# Altium footprint library Telit.PcbLib: 9 footprints
Each footprint in its own frame and in the unit in brackets; x right, y up, seen from the top. Pads: shape width x height; smd on the part's side, far side on the other; paste and mask are expansions set on the pad; w line width, h text height; cw(c..) or ccw(c..) is an arc to the next point about the centre after c.
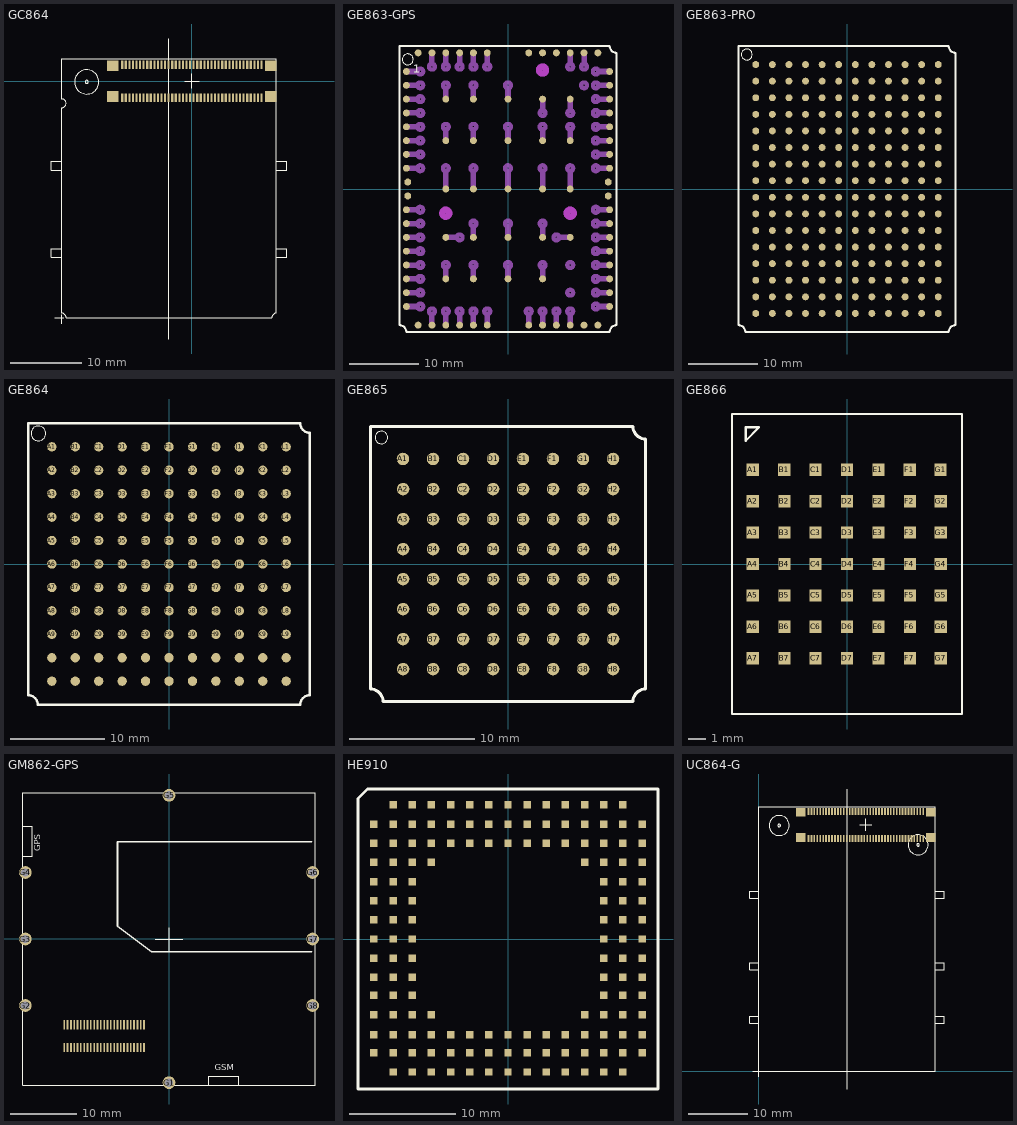
[diagram p0: the footprints below, top view; thin cyan lines are the x and y axes]

## GC864 [mm]
pads (84):
  rect 0.3x1.2 smd: 1(-9.75,2.3) 2(-9.75,-2.3) 3(-9.25,2.3) 4(-9.25,-2.3) 5(-8.75,2.3) 6(-8.75,-2.3) 7(-8.25,2.3) 8(-8.25,-2.3) 9(-7.75,2.3) 10(-7.75,-2.3) 11(-7.25,2.3) 12(-7.25,-2.3) 13(-6.75,2.3) 14(-6.75,-2.3) 15(-6.25,2.3) 16(-6.25,-2.3) 17(-5.75,2.3) 18(-5.75,-2.3) 19(-5.25,2.3) 20(-5.25,-2.3) 21(-4.75,2.3) 22(-4.75,-2.3) 23(-4.25,2.3) 24(-4.25,-2.3) 25(-3.75,2.3) 26(-3.75,-2.3) 27(-3.25,2.3) 28(-3.25,-2.3) 29(-2.75,2.3) 30(-2.75,-2.3) 31(-2.25,2.3) 32(-2.25,-2.3) 33(-1.75,2.3) 34(-1.75,-2.3) 35(-1.25,2.3) 36(-1.25,-2.3) 37(-0.75,2.3) 38(-0.75,-2.3) 39(-0.25,2.3) 40(-0.25,-2.3) 41(0.25,2.3) 42(0.25,-2.3) 43(0.75,2.3) 44(0.75,-2.3) 45(1.25,2.3) 46(1.25,-2.3) 47(1.75,2.3) 48(1.75,-2.3) 49(2.25,2.3) 50(2.25,-2.3) 51(2.75,2.3) 52(2.75,-2.3) 53(3.25,2.3) 54(3.25,-2.3) 55(3.75,2.3) 56(3.75,-2.3) 57(4.25,2.3) 58(4.25,-2.3) 59(4.75,2.3) 60(4.75,-2.3) 61(5.25,2.3) 62(5.25,-2.3) 63(5.75,2.3) 64(5.75,-2.3) 65(6.25,2.3) 66(6.25,-2.3) 67(6.75,2.3) 68(6.75,-2.3) 69(7.25,2.3) 70(7.25,-2.3) 71(7.75,2.3) 72(7.75,-2.3) 73(8.25,2.3) 74(8.25,-2.3) 75(8.75,2.3) 76(8.75,-2.3) 77(9.25,2.3) 78(9.25,-2.3) 79(9.75,2.3) 80(9.75,-2.3)
  rect 1.6x1.5 smd: P$81(-11.05,2.15) P$82(-11.05,-2.15) P$83(11.05,2.15) P$84(11.05,-2.15)
Top Overlay:
  circle w0.127: c-14.716,-0.105 r1.7
  circle w0.127: c-14.716,-0.105 r0.224
  lines w0: -19.2,-33.1 -17.9,-33.1 ; -18.2,-34 -18.2,-32.7 ; -3.2,-36.1 -3.2,5.9 ; -1,0 1,0 ; 0,-1 0,1
  lines w0.127: -18.2,-23.45 -18.2,-24.65 -19.7,-24.65 -19.7,-23.45 -18.2,-23.45 ; -18.2,-23.45 -18.2,-12.45 ; -18.2,-12.45 -19.7,-12.45 -19.7,-11.25 -18.2,-11.25 -18.2,-12.45 ; 11.8,-23.45 11.8,-12.45 ; 11.8,-23.45 11.8,-24.65 13.3,-24.65 13.3,-23.45 11.8,-23.45 ; 11.8,-12.45 13.3,-12.45 13.3,-11.25 11.8,-11.25 11.8,-12.45 ; -18.2,-32.5 cw(c-18.2,-33.1) -17.6,-33.1 11.2,-33.1 cw(c11.8,-33.1) 11.8,-32.5 11.8,3.1 -18.2,3.1 -18.2,-2.5 cw(c-18.2,-3.1) -17.6,-3.1 cw(c-18.2,-3.1) -18.2,-3.7 -18.2,-32.5
Mechanical 13:
  text "www.antrax.de" at -16.51,-31.75 h0.94
Mechanical 16:
  text "GSM" at -15.901,-3.013 h1.26
  text "(Bot)" at -15.52,-3.875 h0.94

## GE863-GPS [mm]
pads (84):
  rrect100% 1x1 smd: 1(-14.7,17) 2(-14.7,15) 3(-14.7,13) 4(-14.7,11) 5(-14.7,9) 6(-14.7,7) 7(-14.7,5) 8(-14.7,3) 9(-14.7,-3) 10(-14.7,-5) 11(-14.7,-7) 12(-14.7,-9) 13(-14.7,-11) 14(-14.7,-13) 15(-14.7,-15) 16(-14.7,-17) 17(-13,-19.7) 18(-11,-19.7) 19(-9,-19.7) 20(-7,-19.7) 21(-5,-19.7) 22(-3,-19.7) 23(3,-19.7) 24(5,-19.7) 25(7,-19.7) 26(9,-19.7) 27(11,-19.7) 28(13,-19.7) 29(14.7,-17) 30(14.7,-15) 31(14.7,-13) 32(14.7,-11) 33(14.7,-9) 34(14.7,-7) 35(14.7,-5) 36(14.7,-3) 37(14.7,3) 38(14.7,5) 39(14.7,7) 40(14.7,9) 41(14.7,11) 42(14.7,13) 43(14.7,15) 44(14.7,17) 45(13,19.7) 46(11,19.7) 47(9,19.7) 48(7,19.7) 49(5,19.7) 50(3,19.7) 51(-3,19.7) 52(-5,19.7) 53(-7,19.7) 54(-9,19.7) 55(-11,19.7) 56(-13,19.7) 57(-9,13) 58(-9,7) 59(-9,0) 60(-9,-7) 61(-9,-13) 62(-5,13) 63(-5,7) 64(-5,0) 65(-5,-7) 66(-5,-13) 67(0,13) 68(0,7) 69(0,0) 70(0,-7) 71(0,-13) 72(5,13) 73(5,7) 74(5,0) 75(5,-7) 76(5,-13) 77(9,13) 78(9,7) 79(9,0) 80(9,-7) 81(-14.5,1) 82(-14.5,-1) 83(14.5,-1) 84(14.5,1)
Top Overlay:
  circle w0: c-14.5,18.75 r0.79
  lines w0.305: -15.7,-19.7 cw(c-15.7,-20.7) -14.7,-20.7 14.7,-20.7 cw(c15.7,-20.7) 15.7,-19.7 15.7,19.7 cw(c15.7,20.7) 14.7,20.7 -15.7,20.7 -15.7,-19.7
  text "1" at -13.743,16.383 h1.97
Top Solder:
  circle w0: c-9,13 r0.671
  circle w0: c-5,13 r0.671
  circle w0: c0,13 r0.671
  circle w0: c5,13 r0.671
  circle w0: c9,13 r0.671
  circle w0: c9,7 r0.671
  circle w0: c5,7 r0.671
  circle w0: c0,7 r0.671
  circle w0: c-5,7 r0.671
  circle w0: c-9,7 r0.671
  circle w0: c-9,0 r0.671
  circle w0: c-5,0 r0.671
  circle w0: c0,0 r0.671
  circle w0: c5,0 r0.671
  circle w0: c9,0 r0.671
  circle w0: c9,-7 r0.671
  circle w0: c5,-7 r0.671
  circle w0: c0,-7 r0.671
  circle w0: c-5,-7 r0.671
  circle w0: c-9,-7 r0.671
  circle w0: c-9,-13 r0.671
  circle w0: c-5,-13 r0.671
  circle w0: c0,-13 r0.671
  circle w0: c5,-13 r0.671
  circle w0: c-14.7,17 r0.671
  circle w0: c-14.7,15 r0.671
  circle w0: c-14.7,13 r0.671
  circle w0: c-14.7,11 r0.671
  circle w0: c-14.7,9 r0.671
  circle w0: c-14.7,7 r0.671
  circle w0: c-14.7,5 r0.671
  circle w0: c-14.7,3 r0.671
  circle w0: c-14.7,-3 r0.671
  circle w0: c-14.7,-5 r0.671
  circle w0: c-14.7,-7 r0.671
  circle w0: c-14.7,-9 r0.671
  circle w0: c-14.7,-11 r0.671
  circle w0: c-14.7,-13 r0.671
  circle w0: c-14.7,-15 r0.671
  circle w0: c-14.7,-17 r0.671
  circle w0: c-13,-19.7 r0.671
  circle w0: c-11,-19.7 r0.671
  circle w0: c-9,-19.7 r0.671
  circle w0: c-7,-19.7 r0.671
  circle w0: c-5,-19.7 r0.671
  circle w0: c-3,-19.7 r0.671
  circle w0: c3,-19.7 r0.671
  circle w0: c5,-19.7 r0.671
  circle w0: c7,-19.7 r0.671
  circle w0: c9,-19.7 r0.671
  circle w0: c11,-19.7 r0.671
  circle w0: c13,-19.7 r0.671
  circle w0: c14.7,-17 r0.671
  circle w0: c14.7,-15 r0.671
  circle w0: c14.7,-13 r0.671
  circle w0: c14.7,-11 r0.671
  circle w0: c14.7,-9 r0.671
  circle w0: c14.7,-7 r0.671
  circle w0: c14.7,-5 r0.671
  circle w0: c14.7,-3 r0.671
  circle w0: c14.7,3 r0.671
  circle w0: c14.7,5 r0.671
  circle w0: c14.7,7 r0.671
  circle w0: c14.7,9 r0.671
  circle w0: c14.7,11 r0.671
  circle w0: c14.7,13 r0.671
  circle w0: c14.7,15 r0.671
  circle w0: c14.7,17 r0.671
  circle w0: c13,19.7 r0.671
  circle w0: c11,19.7 r0.671
  circle w0: c9,19.7 r0.671
  circle w0: c7,19.7 r0.671
  circle w0: c5,19.7 r0.671
  circle w0: c3,19.7 r0.671
  circle w0: c-3,19.7 r0.671
  circle w0: c-5,19.7 r0.671
  circle w0: c-7,19.7 r0.671
  circle w0: c-9,19.7 r0.671
  circle w0: c-11,19.7 r0.671
  circle w0: c-13,19.7 r0.671
Mechanical 8 keep-out:
  circle w0.9: c-9,-3.5 r0.51
  circle w0.9: c9,-3.5 r0.51
  circle w0.9: c5,17.2 r0.51
Mechanical 12:
  circle w0.61: c-9,15 r0.424
  circle w0.61: c-5,15 r0.424
  circle w0.61: c0,15 r0.424
  circle w0.61: c5,11 r0.424
  circle w0.61: c9,11 r0.424
  circle w0.61: c9,9 r0.424
  circle w0.61: c5,9 r0.424
  circle w0.61: c0,9 r0.424
  circle w0.61: c-5,9 r0.424
  circle w0.61: c-9,9 r0.424
  circle w0.61: c9,3 r0.424
  circle w0.61: c5,3 r0.424
  circle w0.61: c0,3 r0.424
  circle w0.61: c-5,3 r0.424
  circle w0.61: c-9,3 r0.424
  circle w0.61: c-5,-5 r0.424
  circle w0.61: c0,-5 r0.424
  circle w0.61: c5,-5 r0.424
  circle w0.61: c7,-7 r0.424
  circle w0.61: c-7,-7 r0.424
  circle w0.61: c-9,-11 r0.424
  circle w0.61: c-5,-11 r0.424
  circle w0.61: c0,-11 r0.424
  circle w0.61: c5,-11 r0.424
  circle w0.61: c11,15 r0.424
  circle w0.61: c9,-15 r0.424
  circle w0.61: c9,-11 r0.424
  circle w0.61: c-9,17.7 r0.424
  circle w0.61: c-11,17.7 r0.424
  circle w0.61: c-7,17.7 r0.424
  circle w0.61: c-5,17.7 r0.424
  circle w0.61: c-3,17.7 r0.424
  circle w0.61: c11,17.7 r0.424
  circle w0.61: c9,17.7 r0.424
  circle w0.61: c-11,-17.7 r0.424
  circle w0.61: c-9,-17.7 r0.424
  circle w0.61: c-7,-17.7 r0.424
  circle w0.61: c-5,-17.7 r0.424
  circle w0.61: c-3,-17.7 r0.424
  circle w0.61: c3,-17.7 r0.424
  circle w0.61: c5,-17.7 r0.424
  circle w0.61: c7,-17.7 r0.424
  circle w0.61: c9,-17.7 r0.424
  circle w0.61: c-12.7,-17 r0.424
  circle w0.61: c-12.7,-15 r0.424
  circle w0.61: c-12.7,-13 r0.424
  circle w0.61: c-12.7,-11 r0.424
  circle w0.61: c-12.7,-9 r0.424
  circle w0.61: c-12.7,-7 r0.424
  circle w0.61: c-12.7,-5 r0.424
  circle w0.61: c-12.7,-3 r0.424
  circle w0.61: c-12.7,17 r0.424
  circle w0.61: c-12.7,15 r0.424
  circle w0.61: c-12.7,13 r0.424
  circle w0.61: c-12.7,11 r0.424
  circle w0.61: c-12.7,9 r0.424
  circle w0.61: c-12.7,7 r0.424
  circle w0.61: c-12.7,5 r0.424
  circle w0.61: c-12.7,3 r0.424
  circle w0.61: c12.7,17 r0.424
  circle w0.61: c12.7,15 r0.424
  circle w0.61: c12.7,13 r0.424
  circle w0.61: c12.7,11 r0.424
  circle w0.61: c12.7,9 r0.424
  circle w0.61: c12.7,7 r0.424
  circle w0.61: c12.7,5 r0.424
  circle w0.61: c12.7,3 r0.424
  circle w0.61: c12.7,-3 r0.424
  circle w0.61: c12.7,-5 r0.424
  circle w0.61: c12.7,-7 r0.424
  circle w0.61: c12.7,-9 r0.424
  circle w0.61: c12.7,-11 r0.424
  circle w0.61: c12.7,-13 r0.424
  circle w0.61: c12.7,-15 r0.424
  circle w0.61: c12.7,-17 r0.424
  rectangle: -9.4,-13 -8.6,-11
  rectangle: -5.4,-13 -4.6,-11
  rectangle: -0.4,-13 0.4,-11
  rectangle: 4.6,-13 5.4,-11
  rectangle: 4.6,-7 5.4,-5
  rectangle: -0.4,-7 0.4,-5
  rectangle: -5.4,-7 -4.6,-5
  region: 9,-7.4 9,-6.6 7,-6.6 7,-7.4
  region: -7,-7.4 -7,-6.6 -9,-6.6 -9,-7.4
  rectangle: 8.6,7 9.4,9
  rectangle: 4.6,7 5.4,9
  rectangle: -0.4,7 0.4,9
  rectangle: -5.4,7 -4.6,9
  rectangle: -9.4,7 -8.6,9
  rectangle: -9.4,13 -8.6,15
  rectangle: -5.4,13 -4.6,15
  rectangle: -0.4,13 0.4,15
  rectangle: 4.6,11 5.4,13
  rectangle: 8.6,11 9.4,13
  rectangle: -9.4,0 -8.6,3
  rectangle: -5.4,0 -4.6,3
  rectangle: -0.4,0 0.4,3
  rectangle: 4.6,0 5.4,3
  rectangle: 8.6,0 9.4,3
  rectangle: -9.4,17.7 -8.6,19.7
  rectangle: -7.4,17.7 -6.6,19.7
  rectangle: -5.4,17.7 -4.6,19.7
  rectangle: -3.4,17.7 -2.6,19.7
  rectangle: -11.4,17.7 -10.6,19.7
  rectangle: 10.6,17.7 11.4,19.7
  rectangle: 8.6,17.7 9.4,19.7
  rectangle: -11.4,-19.7 -10.6,-17.7
  rectangle: -9.4,-19.7 -8.6,-17.7
  rectangle: -7.4,-19.7 -6.6,-17.7
  rectangle: -5.4,-19.7 -4.6,-17.7
  rectangle: -3.4,-19.7 -2.6,-17.7
  rectangle: 2.6,-19.7 3.4,-17.7
  rectangle: 4.6,-19.7 5.4,-17.7
  rectangle: 6.6,-19.7 7.4,-17.7
  rectangle: 8.6,-19.7 9.4,-17.7
  region: -12.7,-17.4 -12.7,-16.6 -14.7,-16.6 -14.7,-17.4
  region: -12.7,-15.4 -12.7,-14.6 -14.7,-14.6 -14.7,-15.4
  region: -12.7,-13.4 -12.7,-12.6 -14.7,-12.6 -14.7,-13.4
  region: -12.7,-11.4 -12.7,-10.6 -14.7,-10.6 -14.7,-11.4
  region: -12.7,-9.4 -12.7,-8.6 -14.7,-8.6 -14.7,-9.4
  region: -12.7,-7.4 -12.7,-6.6 -14.7,-6.6 -14.7,-7.4
  region: -12.7,-5.4 -12.7,-4.6 -14.7,-4.6 -14.7,-5.4
  region: -12.7,-3.4 -12.7,-2.6 -14.7,-2.6 -14.7,-3.4
  region: -12.7,16.6 -12.7,17.4 -14.7,17.4 -14.7,16.6
  region: -12.7,14.6 -12.7,15.4 -14.7,15.4 -14.7,14.6
  region: -12.7,12.6 -12.7,13.4 -14.7,13.4 -14.7,12.6
  region: -12.7,10.6 -12.7,11.4 -14.7,11.4 -14.7,10.6
  region: -12.7,8.6 -12.7,9.4 -14.7,9.4 -14.7,8.6
  region: -12.7,6.6 -12.7,7.4 -14.7,7.4 -14.7,6.6
  region: -12.7,4.6 -12.7,5.4 -14.7,5.4 -14.7,4.6
  region: -12.7,2.6 -12.7,3.4 -14.7,3.4 -14.7,2.6
  region: 14.7,16.6 14.7,17.4 12.7,17.4 12.7,16.6
  region: 14.7,14.6 14.7,15.4 12.7,15.4 12.7,14.6
  region: 14.7,12.6 14.7,13.4 12.7,13.4 12.7,12.6
  region: 14.7,10.6 14.7,11.4 12.7,11.4 12.7,10.6
  region: 14.7,8.6 14.7,9.4 12.7,9.4 12.7,8.6
  region: 14.7,6.6 14.7,7.4 12.7,7.4 12.7,6.6
  region: 14.7,4.6 14.7,5.4 12.7,5.4 12.7,4.6
  region: 14.7,2.6 14.7,3.4 12.7,3.4 12.7,2.6
  region: 14.7,-3.4 14.7,-2.6 12.7,-2.6 12.7,-3.4
  region: 14.7,-5.4 14.7,-4.6 12.7,-4.6 12.7,-5.4
  region: 14.7,-7.4 14.7,-6.6 12.7,-6.6 12.7,-7.4
  region: 14.7,-9.4 14.7,-8.6 12.7,-8.6 12.7,-9.4
  region: 14.7,-11.4 14.7,-10.6 12.7,-10.6 12.7,-11.4
  region: 14.7,-13.4 14.7,-12.6 12.7,-12.6 12.7,-13.4
  region: 14.7,-15.4 14.7,-14.6 12.7,-14.6 12.7,-15.4
  region: 14.7,-17.4 14.7,-16.6 12.7,-16.6 12.7,-17.4
Mechanical 13:
  text "www.antrax.de" at -10.795,-15.875 h0.94
3D body "User Library-Telit GE863-GPS.step": height 3.6, standoff 0, extent -15.652,-20.7 15.748,20.7

## GE863-PRO [mm]
pads (192):
  rrect100% 1x1 smd: A1(-13.2,18) A2(-10.8,18) A3(-8.4,18) A4(-6,18) A5(-3.6,18) A6(-1.2,18) A7(1.2,18) A8(3.6,18) A9(6,18) A10(8.4,18) A11(10.8,18) A12(13.2,18) B1(-13.2,15.6) B2(-10.8,15.6) B3(-8.4,15.6) B4(-6,15.6) B5(-3.6,15.6) B6(-1.2,15.6) B7(1.2,15.6) B8(3.6,15.6) B9(6,15.6) B10(8.4,15.6) B11(10.8,15.6) B12(13.2,15.6) C1(-13.2,13.2) C2(-10.8,13.2) C3(-8.4,13.2) C4(-6,13.2) C5(-3.6,13.2) C6(-1.2,13.2) C7(1.2,13.2) C8(3.6,13.2) C9(6,13.2) C10(8.4,13.2) C11(10.8,13.2) C12(13.2,13.2) D1(-13.2,10.8) D2(-10.8,10.8) D3(-8.4,10.8) D4(-6,10.8) D5(-3.6,10.8) D6(-1.2,10.8) D7(1.2,10.8) D8(3.6,10.8) D9(6,10.8) D10(8.4,10.8) D11(10.8,10.8) D12(13.2,10.8) E1(-13.2,8.4) E2(-10.8,8.4) E3(-8.4,8.4) E4(-6,8.4) E5(-3.6,8.4) E6(-1.2,8.4) E7(1.2,8.4) E8(3.6,8.4) E9(6,8.4) E10(8.4,8.4) E11(10.8,8.4) E12(13.2,8.4) F1(-13.2,6) F2(-10.8,6) F3(-8.4,6) F4(-6,6) F5(-3.6,6) F6(-1.2,6) F7(1.2,6) F8(3.6,6) F9(6,6) F10(8.4,6) F11(10.8,6) F12(13.2,6) G1(-13.2,3.6) G2(-10.8,3.6) G3(-8.4,3.6) G4(-6,3.6) G5(-3.6,3.6) G6(-1.2,3.6) G7(1.2,3.6) G8(3.6,3.6) G9(6,3.6) G10(8.4,3.6) G11(10.8,3.6) G12(13.2,3.6) H1(-13.2,1.2) H2(-10.8,1.2) H3(-8.4,1.2) H4(-6,1.2) H5(-3.6,1.2) H6(-1.2,1.2) H7(1.2,1.2) H8(3.6,1.2) H9(6,1.2) H10(8.4,1.2) H11(10.8,1.2) H12(13.2,1.2) J1(-13.2,-1.2) J2(-10.8,-1.2) J3(-8.4,-1.2) J4(-6,-1.2) J5(-3.6,-1.2) J6(-1.2,-1.2) J7(1.2,-1.2) J8(3.6,-1.2) J9(6,-1.2) J10(8.4,-1.2) J11(10.8,-1.2) J12(13.2,-1.2) K1(-13.2,-3.6) K2(-10.8,-3.6) K3(-8.4,-3.6) K4(-6,-3.6) K5(-3.6,-3.6) K6(-1.2,-3.6) K7(1.2,-3.6) K8(3.6,-3.6) K9(6,-3.6) K10(8.4,-3.6) K11(10.8,-3.6) K12(13.2,-3.6) L1(-13.2,-6) L2(-10.8,-6) L3(-8.4,-6) L4(-6,-6) L5(-3.6,-6) L6(-1.2,-6) L7(1.2,-6) L8(3.6,-6) L9(6,-6) L10(8.4,-6) L11(10.8,-6) L12(13.2,-6) M1(-13.2,-8.4) M2(-10.8,-8.4) M3(-8.4,-8.4) M4(-6,-8.4) M5(-3.6,-8.4) M6(-1.2,-8.4) M7(1.2,-8.4) M8(3.6,-8.4) M9(6,-8.4) M10(8.4,-8.4) M11(10.8,-8.4) M12(13.2,-8.4) N1(-13.2,-10.8) N2(-10.8,-10.8) N3(-8.4,-10.8) N4(-6,-10.8) N5(-3.6,-10.8) N6(-1.2,-10.8) N7(1.2,-10.8) N8(3.6,-10.8) N9(6,-10.8) N10(8.4,-10.8) N11(10.8,-10.8) N12(13.2,-10.8) P1(-13.2,-13.2) P2(-10.8,-13.2) P3(-8.4,-13.2) P4(-6,-13.2) P5(-3.6,-13.2) P6(-1.2,-13.2) P7(1.2,-13.2) P8(3.6,-13.2) P9(6,-13.2) P10(8.4,-13.2) P11(10.8,-13.2) P12(13.2,-13.2) R1(-13.2,-15.6) R2(-10.8,-15.6) R3(-8.4,-15.6) R4(-6,-15.6) R5(-3.6,-15.6) R6(-1.2,-15.6) R7(1.2,-15.6) R8(3.6,-15.6) R9(6,-15.6) R10(8.4,-15.6) R11(10.8,-15.6) R12(13.2,-15.6) S1(-13.2,-18) S2(-10.8,-18) S3(-8.4,-18) S4(-6,-18) S5(-3.6,-18) S6(-1.2,-18) S7(1.2,-18) S8(3.6,-18) S9(6,-18) S10(8.4,-18) S11(10.8,-18) S12(13.2,-18)
Top Overlay:
  circle w0: c-14.5,19.45 r0.79
  lines w0.305: -15.7,-19.7 cw(c-15.7,-20.7) -14.7,-20.7 14.7,-20.7 cw(c15.7,-20.7) 15.7,-19.7 15.7,19.7 cw(c15.7,20.7) 14.7,20.7 -15.7,20.7 -15.7,-19.7
Top Solder:
  drawing of 192 lines, arcs and shapes, not listed
Mechanical 13:
  text "www.antrax.de" at -13.97,-20.32 h0.94
  text "S" at -14.9,-18.3 h0.94
  text "R" at -14.9,-15.9 h0.94
  text "P" at -14.9,-13.5 h0.94
  text "N" at -14.9,-11.1 h0.94
  text "M" at -14.9,-8.7 h0.94
  text "L" at -14.9,-6.3 h0.94
  text "K" at -14.9,-3.9 h0.94
  text "J" at -14.9,-1.5 h0.94
  text "H" at -14.9,0.9 h0.94
  text "G" at -14.9,3.3 h0.94
  text "F" at -14.9,5.7 h0.94
  text "E" at -14.9,8.1 h0.94
  text "D" at -14.9,10.5 h0.94
  text "C" at -14.9,12.9 h0.94
  text "B" at -14.9,15.3 h0.94
  text "A" at -14.9,17.7 h0.94
  text "12" at 12.7,19.2 h0.94
  text "11" at 10.3,19.2 h0.94
  text "10" at 7.9,19.2 h0.94
  text "9" at 5.8,19.2 h0.94
  text "8" at 3.4,19.2 h0.94
  text "7" at 1,19.2 h0.94
  text "6" at -1.4,19.2 h0.94
  text "5" at -3.8,19.2 h0.94
  text "4" at -6.2,19.2 h0.94
  text "3" at -8.6,19.2 h0.94
  text "2" at -11,19.2 h0.94
  text "1" at -13.4,19.2 h0.94
3D body "User Library-Telit GE863-GPS.step": height 3.6, standoff 0, extent -15.748,-20.828 15.652,20.572

## GE864 [mm]
pads (121):
  rrect100% 1x1 smd: A1(-12.5,12.5) A2(-12.5,10) A3(-12.5,7.5) A4(-12.5,5) A5(-12.5,2.5) A6(-12.5,0) A7(-12.5,-2.5) A8(-12.5,-5) A9(-12.5,-7.5) A10(-12.5,-10) A11(-12.5,-12.5) B1(-10,12.5) B2(-10,10) B3(-10,7.5) B4(-10,5) B5(-10,2.5) B6(-10,0) B7(-10,-2.5) B8(-10,-5) B9(-10,-7.5) B10(-10,-10) B11(-10,-12.5) C1(-7.5,12.5) C2(-7.5,10) C3(-7.5,7.5) C4(-7.5,5) C5(-7.5,2.5) C6(-7.5,0) C7(-7.5,-2.5) C8(-7.5,-5) C9(-7.5,-7.5) C10(-7.5,-10) C11(-7.5,-12.5) D1(-5,12.5) D2(-5,10) D3(-5,7.5) D4(-5,5) D5(-5,2.5) D6(-5,0) D7(-5,-2.5) D8(-5,-5) D9(-5,-7.5) D10(-5,-10) D11(-5,-12.5) E1(-2.5,12.5) E2(-2.5,10) E3(-2.5,7.5) E4(-2.5,5) E5(-2.5,2.5) E6(-2.5,0) E7(-2.5,-2.5) E8(-2.5,-5) E9(-2.5,-7.5) E10(-2.5,-10) E11(-2.5,-12.5) F1(0,12.5) F2(0,10) F3(0,7.5) F4(0,5) F5(0,2.5) F6(0,0) F7(0,-2.5) F8(0,-5) F9(0,-7.5) F10(0,-10) F11(0,-12.5) G1(2.5,12.5) G2(2.5,10) G3(2.5,7.5) G4(2.5,5) G5(2.5,2.5) G6(2.5,0) G7(2.5,-2.5) G8(2.5,-5) G9(2.5,-7.5) G10(2.5,-10) G11(2.5,-12.5) H1(5,12.5) H2(5,10) H3(5,7.5) H4(5,5) H5(5,2.5) H6(5,0) H7(5,-2.5) H8(5,-5) H9(5,-7.5) H10(5,-10) H11(5,-12.5) J1(7.5,12.5) J2(7.5,10) J3(7.5,7.5) J4(7.5,5) J5(7.5,2.5) J6(7.5,0) J7(7.5,-2.5) J8(7.5,-5) J9(7.5,-7.5) J10(7.5,-10) J11(7.5,-12.5) K1(10,12.5) K2(10,10) K3(10,7.5) K4(10,5) K5(10,2.5) K6(10,0) K7(10,-2.5) K8(10,-5) K9(10,-7.5) K10(10,-10) K11(10,-12.5) L1(12.5,12.5) L2(12.5,10) L3(12.5,7.5) L4(12.5,5) L5(12.5,2.5) L6(12.5,0) L7(12.5,-2.5) L8(12.5,-5) L9(12.5,-7.5) L10(12.5,-10) L11(12.5,-12.5)
Top Overlay:
  circle w0: c-13.93,13.93 r0.79
  lines w0.254: -15,-14 cw(c-15,-15) -14,-15 14,-15 cw(c15,-15) 15,-14 15,14 cw(c15,15) 14,15 -15,15 -15,-14
Mechanical 13:
  text "A" at -12.75,13.75 h0.94
  text "B" at -10.25,13.75 h0.94
  text "C" at -7.75,13.75 h0.94
  text "D" at -5.25,13.75 h0.94
  text "E" at -2.75,13.75 h0.94
  text "F" at -0.25,13.75 h0.94
  text "G" at 2.25,13.75 h0.94
  text "H" at 4.75,13.75 h0.94
  text "J" at 7.25,13.75 h0.94
  text "K" at 9.75,13.75 h0.94
  text "L" at 12.25,13.75 h0.94
  text "1" at -14.25,12.25 h0.94
  text "2" at -14.25,9.75 h0.94
  text "3" at -14.25,7.25 h0.94
  text "4" at -14.25,4.75 h0.94
  text "5" at -14.25,2.25 h0.94
  text "6" at -14.25,-0.25 h0.94
  text "7" at -14.25,-2.75 h0.94
  text "8" at -14.25,-5.25 h0.94
  text "9" at -14.25,-7.75 h0.94
  text "10" at -14.5,-10.25 h0.94
  text "11" at -14.5,-12.75 h0.94
  text "www.antrax.de" at -13.335,-14.605 h0.94

## GE865 [mm]
pads (64):
  rrect100% 1x1 smd: A1(-8.4,8.4) A2(-8.39,5.99) A3(-8.39,3.59) A4(-8.39,1.19) A5(-8.39,-1.21) A6(-8.39,-3.61) A7(-8.39,-6.01) A8(-8.39,-8.41) B1(-6,8.4) B2(-5.99,5.99) B3(-5.99,3.59) B4(-5.99,1.19) B5(-5.99,-1.21) B6(-5.99,-3.61) B7(-5.99,-6.01) B8(-5.99,-8.41) C1(-3.6,8.4) C2(-3.59,5.99) C3(-3.59,3.59) C4(-3.6,1.2) C5(-3.59,-1.21) C6(-3.59,-3.61) C7(-3.59,-6.01) C8(-3.59,-8.41) D1(-1.2,8.4) D2(-1.19,5.99) D3(-1.2,3.6) D4(-1.2,1.2) D5(-1.19,-1.21) D6(-1.19,-3.61) D7(-1.19,-6.01) D8(-1.19,-8.41) E1(1.2,8.4) E2(1.21,5.99) E3(1.21,3.59) E4(1.21,1.19) E5(1.21,-1.21) E6(1.21,-3.61) E7(1.21,-6.01) E8(1.21,-8.41) F1(3.6,8.4) F2(3.61,5.99) F3(3.61,3.59) F4(3.61,1.19) F5(3.61,-1.21) F6(3.61,-3.61) F7(3.61,-6.01) F8(3.61,-8.41) G1(6,8.4) G2(6.01,5.99) G3(6.01,3.59) G4(6.01,1.19) G5(6.01,-1.21) G6(6.01,-3.61) G7(6.01,-6.01) G8(6.01,-8.41) H1(8.4,8.4) H2(8.41,5.99) H3(8.41,3.59) H4(8.41,1.19) H5(8.41,-1.21) H6(8.41,-3.61) H7(8.41,-6.01) H8(8.41,-8.41)
Top Overlay:
  circle w0: c-10.12,10.12 r0.5
  lines w0.254: -11,-10 cw(c-11,-11) -10,-11 10,-11 cw(c11,-11) 11,-10 11,10 cw(c11,11) 10,11 -11,11 -11,-10
Mechanical 13:
  text "A" at -8.64,9.94 h0.94
  text "B" at -6.14,9.94 h0.94
  text "C" at -3.84,9.94 h0.94
  text "D" at -1.34,9.94 h0.94
  text "E" at 0.96,9.94 h0.94
  text "F" at 3.36,9.94 h0.94
  text "G" at 5.76,9.94 h0.94
  text "H" at 8.16,9.94 h0.94
  text "1" at -10.44,8.14 h0.94
  text "2" at -10.44,5.74 h0.94
  text "3" at -10.44,3.34 h0.94
  text "4" at -10.44,0.94 h0.94
  text "5" at -10.44,-1.46 h0.94
  text "6" at -10.44,-3.86 h0.94
  text "7" at -10.44,-6.26 h0.94
  text "8" at -10.44,-8.66 h0.94
  text "www.antrax.de" at -9.525,-10.16 h0.94
3D body "User Library-Telit  GL865-DUAL V3.STEP": height 2.56, standoff 0, extent -12.208,-12.073 12.192,12.327

## GE866 [mm]
pads (49):
  rect 0.7x0.7 smd: A1(-5.4,5.4) A2(-5.4,3.6) A3(-5.4,1.8) A4(-5.4,0) A5(-5.4,-1.8) A6(-5.4,-3.6) A7(-5.4,-5.4) B1(-3.6,5.4) B2(-3.59,3.6) B3(-3.59,1.8) B4(-3.59,0) B5(-3.59,-1.8) B6(-3.59,-3.6) B7(-3.59,-5.4) C1(-1.8,5.4) C2(-1.8,3.6) C3(-1.8,1.8) C4(-1.8,0) C5(-1.8,-1.8) C6(-1.8,-3.6) C7(-1.8,-5.4) D1(0,5.4) D2(0,3.6) D3(0,1.8) D4(0,0) D5(0,-1.8) D6(0,-3.6) D7(0,-5.4) E1(1.8,5.4) E2(1.8,3.6) E3(1.8,1.8) E4(1.8,0) E5(1.8,-1.8) E6(1.8,-3.6) E7(1.8,-5.4) F1(3.6,5.4) F2(3.61,3.6) F3(3.61,1.8) F4(3.61,0) F5(3.61,-1.8) F6(3.61,-3.6) F7(3.61,-5.4) G1(5.365,5.4) G2(5.375,3.6) G3(5.375,1.8) G4(5.375,0) G5(5.375,-1.8) G6(5.375,-3.6) G7(5.375,-5.4)
Top Overlay:
  lines w0.127: -6.6,-8.6 6.6,-8.6 6.6,8.6 -6.6,8.6 -6.6,-8.6 ; -5.81,7.07 -5.81,7.84 -5.04,7.84 -5.81,7.07
Mechanical 13:
  text "A" at -5.605,6.01 h0.63
  text "B" at -3.81,6.01 h0.63
  text "C" at -2.08,6.01 h0.63
  text "D" at -0.28,6.01 h0.63
  text "E" at 1.6,6.01 h0.63
  text "F" at 3.43,6.01 h0.63
  text "G" at 5.055,6.01 h0.63
  text "1" at -6.3,5.19 h0.63
  text "2" at -6.3,3.42 h0.63
  text "3" at -6.3,1.58 h0.63
  text "4" at -6.3,-0.19 h0.63
  text "5" at -6.3,-2.03 h0.63
  text "6" at -6.3,-3.8 h0.63
  text "7" at -6.3,-5.64 h0.63
  text "www.antrax.de" at -6.35,-8.382 h0.63

## GM862-GPS [mil]
pads (58):
  round 75 hole 50: G1(-0.67,-850.59) G2(-851.06,-393.9) G3(-851.06,-0.2) G4(-851.06,393.5) G5(-0.67,850.2) G6(849.72,393.5) G7(849.72,-0.2) G8(849.72,-393.9)
  rect 10.24x55.12 smd: P1(-148.31,-508.07) P2(-148.31,-641.93) P3(-167.99,-508.07) P4(-167.99,-641.93) P5(-187.68,-508.07) P6(-187.68,-641.93) P7(-207.36,-508.07) P8(-207.36,-641.93) P9(-227.05,-508.07) P10(-227.05,-641.93) P11(-246.73,-508.07) P12(-246.73,-641.93) P13(-266.42,-508.07) P14(-266.42,-641.93) P15(-286.1,-508.07) P16(-286.1,-641.93) P17(-305.79,-508.07) P18(-305.79,-641.93) P19(-325.47,-508.07) P20(-325.47,-641.93) P21(-345.16,-508.07) P22(-345.16,-641.93) P23(-364.84,-508.07) P24(-364.84,-641.93) P25(-384.53,-508.07) P26(-384.53,-641.93) P27(-404.21,-508.07) P28(-404.21,-641.93) P29(-423.9,-508.07) P30(-423.9,-641.93) P31(-443.58,-508.07) P32(-443.58,-641.93) P33(-463.27,-508.07) P34(-463.27,-641.93) P35(-482.95,-508.07) P36(-482.95,-641.93) P37(-502.64,-508.07) P38(-502.64,-641.93) P39(-522.32,-508.07) P40(-522.32,-641.93) P41(-542.01,-508.07) P42(-542.01,-641.93) P43(-561.69,-508.07) P44(-561.69,-641.93) P45(-581.38,-508.07) P46(-581.38,-641.93) P47(-601.06,-508.07) P48(-601.06,-641.93) P49(-620.75,-508.07) P50(-620.75,-641.93)
Top Overlay:
  lines w0: -80.59,-0.2 81.06,-0.2 ; -0.67,-79.96 -0.67,67.44
  lines w5: -865.78,490.55 -808.72,490.55 ; -865.78,667.55 -808.72,667.55 ; -808.78,490.55 -808.78,667.72 ; 235.55,-864.28 235.55,-811.22 412.72,-811.22 412.72,-865.28
  lines w6: -866.81,-866.34 865.47,-866.34 865.47,865.94 -866.81,865.94 -866.81,-866.34
  lines w10: 845,-75 -105,-75 -305,75 -305,575 845,575
  text "GSM" at 270,-790 h62
  text "GPS" at -750,519 h62
Mechanical 13:
  text "www.antrax.de" at -850,-850 h37.2
3D body "User Library-GM862-GPS.STEP": height 263.78, standoff -55.12, extent -876.65,-870.08 895,870.08

## HE910 [mm]
pads (144):
  rect 0.7x0.7 smd: A2(-12.6,10.8) A3(-12.6,9) A4(-12.6,7.2) A5(-12.6,5.4) A6(-12.6,3.6) A7(-12.6,1.8) A8(-12.6,0) A9(-12.6,-1.8) A10(-12.6,-3.6) A11(-12.6,-5.3) A12(-12.6,-7.1) A13(-12.6,-9) A14(-12.6,-10.7) B1(-10.8,12.6) B2(-10.8,10.8) B3(-10.8,9) B4(-10.8,7.2) B5(-10.8,5.4) B6(-10.8,3.6) B7(-10.8,1.8) B8(-10.8,0) B9(-10.8,-1.8) B10(-10.8,-3.6) B11(-10.8,-5.3) B12(-10.8,-7.1) B13(-10.8,-9) B14(-10.8,-10.7) B15(-10.8,-12.5) C1(-9,12.6) C2(-9,10.8) C3(-9,9) C4(-9,7.2) C5(-9,5.4) C6(-9,3.6) C7(-9,1.8) C8(-9,0) C9(-9,-1.8) C10(-9,-3.6) C11(-9,-5.3) C12(-9,-7.1) C13(-9,-9) C14(-9,-10.7) C15(-9,-12.5) D1(-7.2,12.6) D2(-7.2,10.8) D3(-7.2,9) D4(-7.2,7.2) D12(-7.2,-7.1) D13(-7.2,-9) D14(-7.2,-10.7) D15(-7.2,-12.5) E1(-5.4,12.6) E2(-5.4,10.8) E3(-5.4,9) E13(-5.4,-9) E14(-5.4,-10.7) E15(-5.4,-12.5) F1(-3.6,12.6) F2(-3.6,10.8) F3(-3.6,9) F13(-3.6,-9) F14(-3.6,-10.7) F15(-3.6,-12.5) G1(-1.8,12.6) G2(-1.8,10.8) G3(-1.8,9) G13(-1.8,-9) G14(-1.8,-10.7) G15(-1.8,-12.5) H1(0,12.6) H2(0,10.8) H3(0,9) H13(0,-9) H14(0,-10.7) H15(0,-12.5) J1(1.8,12.6) J2(1.8,10.8) J3(1.8,9) J13(1.8,-9) J14(1.8,-10.7) J15(1.8,-12.5) K1(3.6,12.6) K2(3.6,10.8) K3(3.6,9) K13(3.6,-9) K14(3.6,-10.7) K15(3.6,-12.5) L1(5.4,12.6) L2(5.4,10.8) L3(5.4,9) L13(5.4,-9) L14(5.4,-10.7) L15(5.4,-12.5) M1(7.2,12.6) M2(7.2,10.8) M3(7.2,9) M4(7.2,7.2) M12(7.2,-7.1) M13(7.2,-9) M14(7.2,-10.7) M15(7.2,-12.5) N1(9,12.6) N2(9,10.8) N3(9,9) N4(9,7.2) N5(9,5.4) N6(9,3.6) N7(9,1.8) N8(9,0) N9(9,-1.8) N10(9,-3.6) N11(9,-5.3) N12(9,-7.1) N13(9,-9) N14(9,-10.7) N15(9,-12.5) P1(10.8,12.6) P2(10.8,10.8) P3(10.8,9) P4(10.8,7.2) P5(10.8,5.4) P6(10.8,3.6) P7(10.8,1.8) P8(10.8,0) P9(10.8,-1.8) P10(10.8,-3.6) P11(10.8,-5.3) P12(10.8,-7.1) P13(10.8,-9) P14(10.8,-10.7) P15(10.8,-12.5) R2(12.6,10.8) R3(12.6,9) R4(12.6,7.2) R5(12.6,5.4) R6(12.6,3.6) R7(12.6,1.8) R8(12.6,0) R9(12.6,-1.8) R10(12.6,-3.6) R11(12.6,-5.3) R12(12.6,-7.1) R13(12.6,-9) R14(12.6,-10.7)
Top Overlay:
  lines w0.254: -14.1,-14.1 -14.1,13.2 -13.2,14.1 14.1,14.1 14.1,-14.1 -14.1,-14.1
Mechanical 13:
  text "www.antrax.de" at -13.716,-13.716 h0.63
  text "R" at 12.35,13.25 h0.94
  text "P" at 10.55,13.25 h0.94
  text "N" at 8.75,13.25 h0.94
  text "M" at 6.95,13.25 h0.94
  text "15" at -14,-12.75 h0.94
  text "14" at -14,-10.95 h0.94
  text "13" at -14,-9.25 h0.94
  text "12" at -14,-7.35 h0.94
  text "11" at -14,-5.55 h0.94
  text "10" at -14,-3.85 h0.94
  text "9" at -13.75,-2.05 h0.94
  text "8" at -13.75,-0.25 h0.94
  text "7" at -13.75,1.55 h0.94
  text "6" at -13.75,3.35 h0.94
  text "5" at -13.75,5.15 h0.94
  text "4" at -13.75,6.95 h0.94
  text "3" at -13.75,8.75 h0.94
  text "2" at -13.75,10.55 h0.94
  text "1" at -13.75,12.35 h0.94
  text "L" at 5.15,13.25 h0.94
  text "K" at 3.35,13.25 h0.94
  text "J" at 1.55,13.25 h0.94
  text "H" at -0.25,13.25 h0.94
  text "G" at -2.15,13.25 h0.94
  text "F" at -3.85,13.25 h0.94
  text "E" at -5.65,13.25 h0.94
  text "D" at -7.45,13.25 h0.94
  text "C" at -9.25,13.25 h0.94
  text "B" at -11.05,13.25 h0.94
  text "A" at -12.85,13.25 h0.94
3D body "User Library-LE910_pass.step": height 2.15, standoff 0, extent -14.1,-14.1 14.1,14.1

## UC864-G [mm]
pads (84):
  rect 0.3x1.2 smd: 1(8.45,44.2) 2(8.45,39.6) 3(8.95,44.2) 4(8.95,39.6) 5(9.45,44.2) 6(9.45,39.6) 7(9.95,44.2) 8(9.95,39.6) 9(10.45,44.2) 10(10.45,39.6) 11(10.95,44.2) 12(10.95,39.6) 13(11.45,44.2) 14(11.45,39.6) 15(11.95,44.2) 16(11.95,39.6) 17(12.45,44.2) 18(12.45,39.6) 19(12.95,44.2) 20(12.95,39.6) 21(13.45,44.2) 22(13.45,39.6) 23(13.95,44.2) 24(13.95,39.6) 25(14.45,44.2) 26(14.45,39.6) 27(14.95,44.2) 28(14.95,39.6) 29(15.45,44.2) 30(15.45,39.6) 31(15.95,44.2) 32(15.95,39.6) 33(16.45,44.2) 34(16.45,39.6) 35(16.95,44.2) 36(16.95,39.6) 37(17.45,44.2) 38(17.45,39.6) 39(17.95,44.2) 40(17.95,39.6) 41(18.45,44.2) 42(18.45,39.6) 43(18.95,44.2) 44(18.95,39.6) 45(19.45,44.2) 46(19.45,39.6) 47(19.95,44.2) 48(19.95,39.6) 49(20.45,44.2) 50(20.45,39.6) 51(20.95,44.2) 52(20.95,39.6) 53(21.45,44.2) 54(21.45,39.6) 55(21.95,44.2) 56(21.95,39.6) 57(22.45,44.2) 58(22.45,39.6) 59(22.95,44.2) 60(22.95,39.6) 61(23.45,44.2) 62(23.45,39.6) 63(23.95,44.2) 64(23.95,39.6) 65(24.45,44.2) 66(24.45,39.6) 67(24.95,44.2) 68(24.95,39.6) 69(25.45,44.2) 70(25.45,39.6) 71(25.95,44.2) 72(25.95,39.6) 73(26.45,44.2) 74(26.45,39.6) 75(26.95,44.2) 76(26.95,39.6) 77(27.45,44.2) 78(27.45,39.6) 79(27.95,44.2) 80(27.95,39.6)
  rect 1.6x1.5 smd: P$81(7.15,44.05) P$82(7.15,39.75) P$83(29.25,44.05) P$84(29.25,39.75)
Top Overlay:
  circle w0.127: c27.088,38.507 r0.224
  circle w0.127: c27.088,38.507 r1.7
  circle w0.127: c3.484,41.794 r0.224
  circle w0.127: c3.484,41.794 r1.7
  lines w0: -1.001,0 0.299,0 ; -0.001,-0.9 -0.001,0.4 ; 15,-3 15,48 ; 17.2,41.9 19.2,41.9 ; 18.2,40.9 18.2,42.9
  lines w0.127: 0,8.15 0,9.35 ; 0,8.15 -1.5,8.15 -1.5,9.35 0,9.35 ; 0,8.15 0,0 30,0 30,8.15 ; 0,9.35 0,17.25 ; 0,17.25 -1.5,17.25 -1.5,18.45 0,18.45 ; 0,17.25 0,18.45 ; 0,18.45 0,29.45 ; 0,29.45 0,30.65 ; 0,29.45 -1.5,29.45 -1.5,30.65 0,30.65 ; 0,30.65 0,45 30,45 30,30.65 ; 30,8.15 30,9.35 ; 30,8.15 31.5,8.15 31.5,9.35 30,9.35 ; 30,9.35 30,17.25 ; 30,17.25 31.5,17.25 31.5,18.45 30,18.45 ; 30,17.25 30,18.45 ; 30,18.45 30,29.45 ; 30,29.45 30,30.65 ; 30,29.45 31.5,29.45 31.5,30.65 30,30.65
Mechanical 13:
  text "www.antrax.de" at 0.762,0.762 h0.94
Mechanical 16:
  text "(Top)" at 26.152,34.727 h0.94
  text "(Bot)" at 2.68,38.025 h0.94
  text "GSM" at 2.299,38.887 h1.26
  text "GPS" at 25.888,35.631 h1.26